# Altium footprint library 150044M155260.PcbLib: 1 footprints
Each footprint in its own frame and in the unit in brackets; x right, y up, seen from the top. Pads: shape width x height; smd on the part's side, far side on the other; paste and mask are expansions set on the pad; w line width, h text height; cw(c..) or ccw(c..) is an arc to the next point about the centre after c.
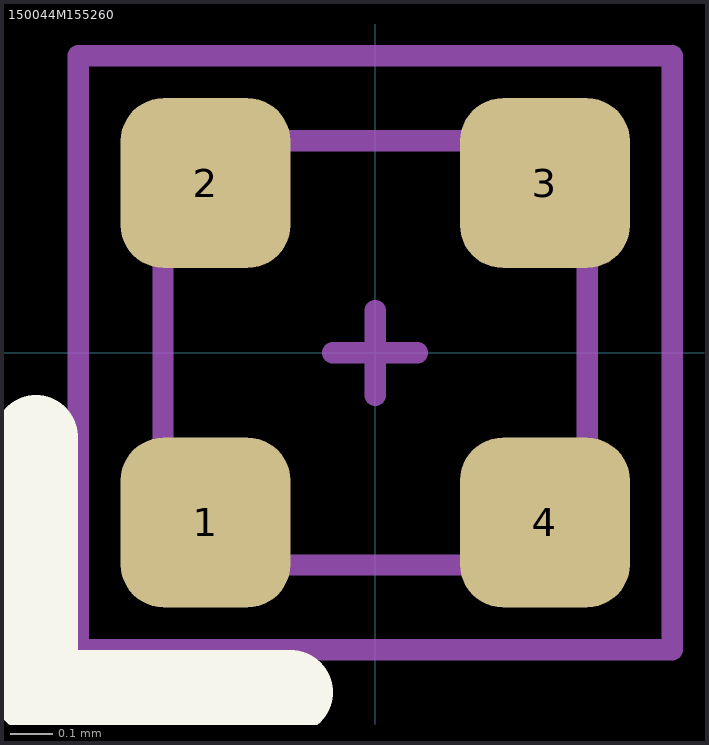
[diagram p0: the footprint, top view; thin cyan lines are the x and y axes]

## 150044M155260 [mm]
pads (4):
  rrect50% 0.4x0.4 smd mask+0.05: 1(-0.4,-0.4) 2(-0.4,0.4) 3(0.4,0.4) 4(0.4,-0.4)
Top Overlay:
  lines w0.2: -0.8,-0.2 -0.8,-0.8 -0.7,-0.8 -0.2,-0.8
Top Assembly:
  lines w0.05: -0.5,-0.5 -0.5,0.5 0.5,0.5 0.5,-0.5 -0.5,-0.5
Top Courtyard:
  lines w0.05: -0.1,0 0.1,0 ; 0,-0.1 0,0.1 ; -0.7,-0.7 0.7,-0.7 0.7,0.7 -0.7,0.7 -0.7,-0.7
3D body "Download_STP_WL-SFCC_150044M175200 (rev1).stp": height 0.65, standoff 0, extent -0.5,-0.5 0.5,0.5